# EAGLE library part HEADER-1X04+1X02-MSP-PROG (library magzor)
Programming header for MSP430 + I2C line jumper hookups
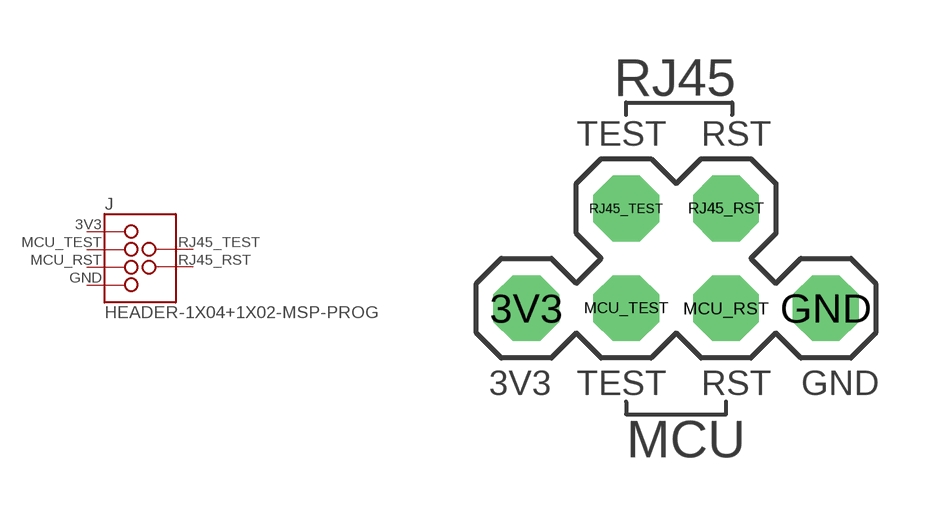
[diagram p27: symbol with the pads of HEADER-1X04+1X02-MSP-PROG; footprint HEADER-1X04+1X02-MSP-PROG]

Designator prefix J

## HEADER-1X04+1X02-MSP-PROG  [HEADER-1X04+1X02-MSP-PROG]
3V3  1
GND  4
MCU_RST  3
MCU_TEST  2
RJ45_RST  6
RJ45_TEST  5

## Footprint HEADER-1X04+1X02-MSP-PROG (pad centres in mm)
drill 0.953 pad 1.676 octagon: 3V3 -3.81,-1.27; GND 3.81,-1.27; MCU_RST 1.27,-1.27; MCU_TEST -1.27,-1.27; RJ45_RST 1.27,1.27; RJ45_TEST -1.27,1.27